# EAGLE library part LL1527/XL (library lundahl)
LL1527 / LL1527XL
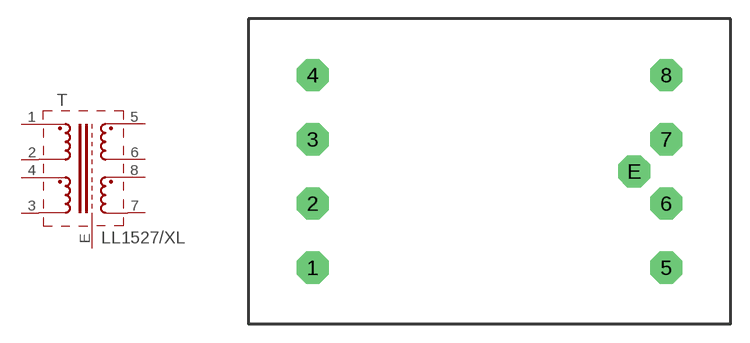
[diagram p23: symbol with the pads of LL1527; footprint LL1527]

Designator prefix T

## LL1527/XL  [LL1527]
1  1  pas
2  2  pas
3  3  pas
4  4  pas
5  5  pas
6  6  pas
7  7  pas
8  8  pas
E  E  pas

## Footprint LL1527 (pad centres in mm)
LL1527
drill 1.422 pad 2.54 octagon: 1 -13.97,-7.62; 2 -13.97,-2.54; 3 -13.97,2.54; 4 -13.97,7.62; 5 13.97,-7.62; 6 13.97,-2.54; 7 13.97,2.54; 8 13.97,7.62; E 11.43,0